# Altium schematic symbol library Schlib1.SchLib: 12 symbols
Pins are listed as number, name and electrical type; pins without a type are passive.

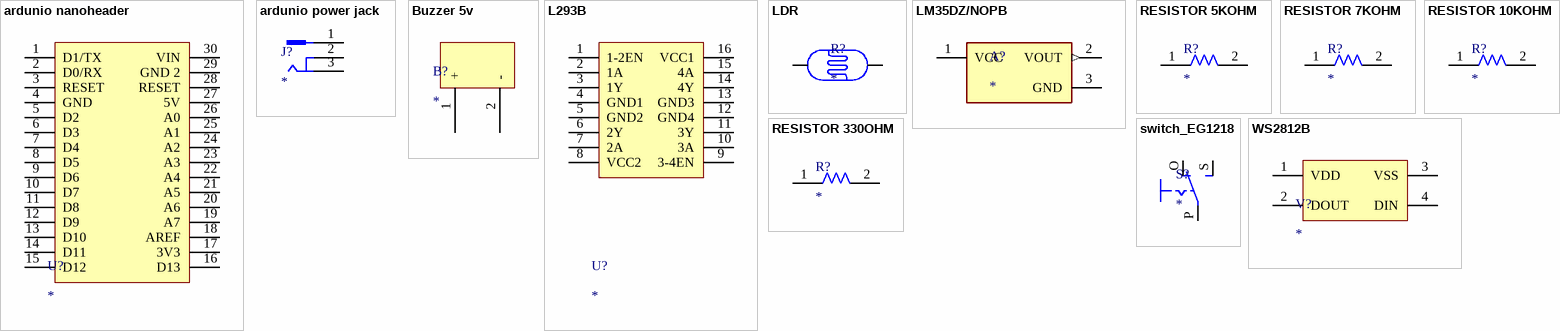
[diagram p0: symbols ardunio nanoheader to WS2812B]

## ardunio nanoheader
designator U?
ardunio nanoheader pin 2x15
footprint ARDUNIO NANO
pins: 1 D1/TX, 2 D0/RX, 3 RESET, 4 GND, 5 D2, 6 D3, 7 D4, 8 D5, 9 D6, 10 D7, 11 D8, 12 D9, 13 D10, 14 D11, 15 D12, 16 D13, 17 3V3, 18 AREF, 19 A7, 20 A6, 21 A5, 22 A4, 23 A3, 24 A2, 25 A1, 26 A0, 27 5V, 28 RESET, 29 GND 2, 30 VIN

## ardunio power jack
designator J?
CONN PWR JACK 2X5.5MM SOLDER  ,PJ-102AH
footprint ardunio uno power jack
pins: 1, 2, 3

## Buzzer 5v
designator B?
Buzzer 5v
footprint Buzzer 5V
pins: 1 +, 2 -

## L293B
designator U?
L293D ve L293B motor sürücü entegreleri içlerinde iki adet H köprüsü barındıran 16 bacaklı motor sürücü entegrelerdir. Genellikle DC motor kontrolünde tercih edilen motor sürücü entegreler olan L293D ve L293B ile iki motor birbirinden bağımsız olarak çift yönlü kontrol edilebilmektedir.
footprint L293B-L293D
pins: 1 1-2EN, 2 1A, 3 1Y, 4 GND1, 5 GND2, 6 2Y, 7 2A, 8 VCC2, 9 3-4EN, 10 3A, 11 3Y, 12 GND4, 13 GND3, 14 4Y, 15 4A, 16 VCC1

## LDR
designator R?
MF: Fairway Electronics; MP: LDR; Value: *; Check_prices: https://www.snapeda.com/parts/LDR/Applied+Avionics/view-part/?ref=eda; Price: None; Package: None; SnapEDA_Link: https://www.snapeda.com/parts/LDR/Applied+Avionics/view-part/?ref=snap; Availability: In Stock
footprint LDR
pins: 1 P$1 (io), 2 P$2 (io)

## LM35DZ/NOPB
designator A?
LM35DZ TEMPERATURE SENSOR; MP: LM35DZ/NOPB; Package: None; Price: None; Availability: Unavailable; Value: *
footprint LM35DZ_TO92127P521H735-3
pins: 1 VCC (power), 2 VOUT (out), 3 GND (power)

## RESISTOR 5KOHM
designator R?
RESISTOR 5KOHM
footprint RES50
pins: 1, 2

## RESISTOR 7KOHM
designator R?
RESISTOR 7KOHM
footprint RES50
pins: 1, 2

## RESISTOR 10KOHM
designator R?
RESISTOR 10KOHM
footprint RES50
pins: 1, 2

## RESISTOR 330OHM
designator R?
RESISTOR 330OHM
footprint RES50
pins: 1, 2

## switch_EG1218
designator S?
<b>SLIDING SWITCH</b><p> 0.1" spacing through hole, vertical SPDT slide switch <p>http://www.ladyada.net/library/pcb/eaglelibrary.html</p>; MP: EG1218; Package: None; Availability: Unavailable; Value: *; Price: None
footprint EG1218
pins: O, P, S

## WS2812B
designator V?
BIR CESIT LED , BUNUN ILE TREN YAPARSIN DIN 'I ARDUNIO YA BAGLA ,DOUT 'UDA BASKA WS2812B 'NIN DIN'INA BAGLA BOYLE TREN OLUR SERIT LED GIBI
footprint WS2812B
pins: 1 VDD, 2 DOUT, 3 VSS, 4 DIN